# Altium footprint library PB-5x5x1.5mm.PcbLib: 1 footprints
Each footprint in its own frame and in the unit in brackets; x right, y up, seen from the top. Pads: shape width x height; smd on the part's side, far side on the other; paste and mask are expansions set on the pad; w line width, h text height; cw(c..) or ccw(c..) is an arc to the next point about the centre after c.
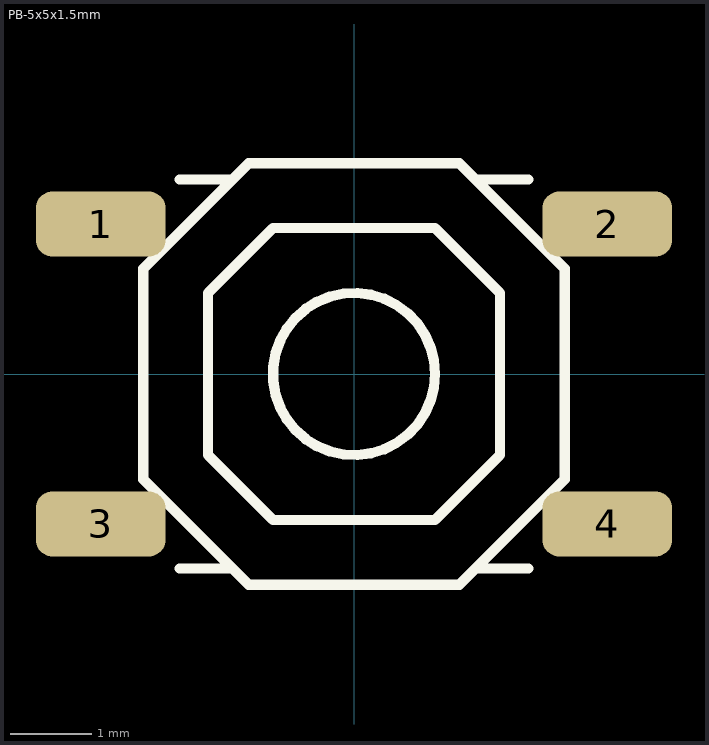
[diagram p0: the footprint, top view; thin cyan lines are the x and y axes]

## PB-5x5x1.5mm [mm] "low profile tactile switch"
height 1.5
pads (4):
  rrect50% 1.6x0.8 smd: 1(-3.125,1.85) 2(3.125,1.85) 3(-3.125,-1.85) 4(3.125,-1.85)
Top Overlay:
  circle w0.127: c0,0 r1
  lines w0.127: -2.15,-2.4 -1.55,-2.4 ; -2.15,2.4 -1.55,2.4 ; 1.55,-2.4 2.15,-2.4 ; 1.55,2.4 2.15,2.4 ; -2.6,-1.3 -1.3,-2.6 1.3,-2.6 2.6,-1.3 2.6,1.3 1.3,2.6 -1.3,2.6 -2.6,1.3 -2.6,-1.3 ; -1.8,-1 -1,-1.8 1,-1.8 1.8,-1 1.8,1 1,1.8 -1,1.8 -1.8,1 -1.8,-1
3D body "Tactile_SMD_5x5mm.STEP": height 1.52, standoff 0, extent -3.25,-2.54 3.25,2.54